# Altium schematic symbol library SCH - CONNECTORS - WURTH - 61200621621.Schlib: 1 symbol
Pins are listed as number, name and electrical type; pins without a type are passive.

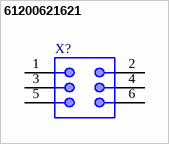
[diagram p0: symbol 61200621621]

## 61200621621
designator X?
Male Box Header WR-BHD, THT, Vertical, pitch 2.54 mm, 6 pins
pins: 1, 2, 3, 4, 5, 6